# Altium schematic symbol library P_MOS_CJM1208.A1.SchLib: 1 symbol
Pins are listed as number, name and electrical type; pins without a type are passive.

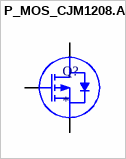
[diagram p0: symbol P_MOS_CJM1208.A1]

## P_MOS_CJM1208.A1
designator Q?
Power MOSFET
pins: 0 D, 1 D, 2 D, 3 G, 4 S, 5 D, 6 D, 7 S